# Altium footprint library EASY-EAI-Nano-TB V1.01.PcbLib: 64 footprints (part 2 of 4)
Each footprint in its own frame and in the unit in brackets; x right, y up, seen from the top. Pads: shape width x height; smd on the part's side, far side on the other; paste and mask are expansions set on the pad; w line width, h text height; cw(c..) or ccw(c..) is an arc to the next point about the centre after c.
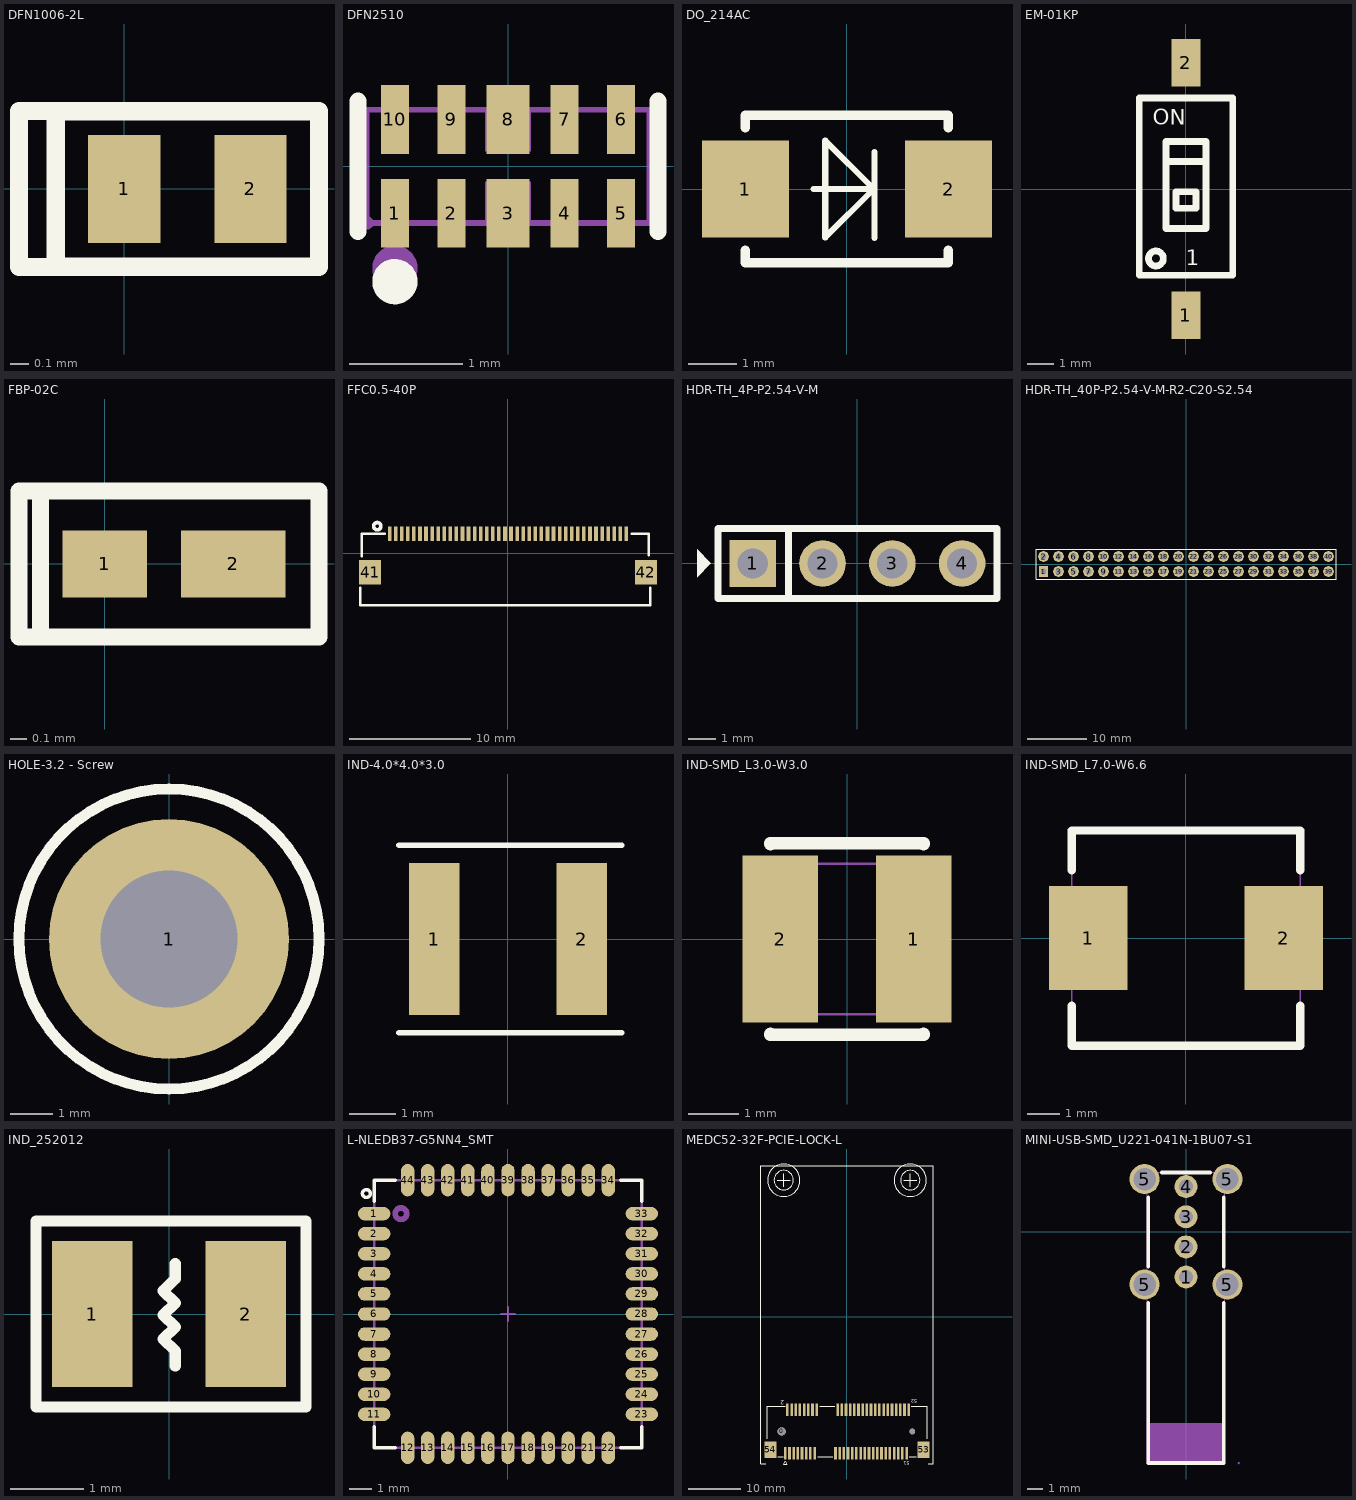
[diagram p1: the footprints below, top view; thin cyan lines are the x and y axes]

## DFN1006-2L [mm]
pads (2):
  rect 0.4x0.6 smd mask+0.051: 1(0,0) 2(0.7,0)
Top Overlay:
  lines w0.1: -0.381,-0.432 -0.584,-0.432 -0.584,0.432 -0.381,0.432
  lines w0.102: -0.381,-0.432 -0.381,0.432 1.081,0.432 1.081,-0.432 -0.381,-0.432

## DFN2510 [mm]
height 0.2
pads (10):
  rect 0.25x0.609 smd: 1(-1,-0.415) 2(-0.5,-0.415) 4(0.5,-0.415) 5(1,-0.415) 6(1,0.415) 7(0.5,0.415) 9(-0.5,0.415) 10(-1,0.415)
  rect 0.38x0.609 smd: 3(0,-0.415) 8(0,0.415)
Top Overlay:
  circle w0.2: c-1,-1.019 r0.1
  lines w0.152: -1.326,-0.576 -1.326,0.576 ; 1.326,-0.576 1.326,0.576
Mechanical 6:
  circle w0.2: c-1,-0.9 r0.1
Mechanical 15:
  region: 0.9,0.5 1.1,0.5 1.1,0.135 0.9,0.135
  region: 0.4,0.5 0.6,0.5 0.6,0.135 0.4,0.135
  region: -0.6,0.5 -0.4,0.5 -0.4,0.135 -0.6,0.135
  region: -1.1,0.5 -0.9,0.5 -0.9,0.135 -1.1,0.135
  region: 0.9,-0.135 1.1,-0.135 1.1,-0.5 0.9,-0.5
  region: 0.4,-0.135 0.6,-0.135 0.6,-0.5 0.4,-0.5
  region: -0.6,-0.135 -0.4,-0.135 -0.4,-0.5 -0.6,-0.5
  region: -1.1,-0.135 -0.9,-0.135 -0.9,-0.5 -1.1,-0.5
  region: 0.2,0.5 0.2,0.135 -0.2,0.135 -0.2,0.5
  region: -0.2,-0.5 -0.2,-0.135 0.2,-0.135 0.2,-0.5
  region: -1.19,-0.5 -1.191,-0.476 -1.226,-0.442 -1.274,-0.442 -1.309,-0.476 -1.31,-0.5 -1.309,-0.524 -1.274,-0.558 -1.226,-0.558 -1.191,-0.524
  lines w0.051: -1.25,-0.5 1.25,-0.5 1.25,0.5 -1.25,0.5 -1.25,-0.5

## DO_214AC [mm] "By LMD from 1.04.03.0018 Molded Diode, 2-Leads, Body 6.85x5.90mm, IPC Low Density"
height 2.62
pads (2):
  rect 1.8x2 smd: 1(-2.1,0) 2(2.1,0)
Top Overlay:
  lines w0.127: -0.688,0 0.552,0 ; 0.567,-1.016 0.567,0.762 ; 0.552,0 -0.449,1.001 -0.449,-1.001 0.552,0
  lines w0.2: -2.1,-1.27 -2.1,-1.524 2.091,-1.524 2.091,-1.27 ; -2.1,1.27 -2.1,1.524 2.091,1.524 2.091,1.27

## EM-01KP [mm]
height 10.5
pads (2):
  rect 1.1x1.8 smd: 1(0,-4.8) 2(0,4.8)
Top Overlay:
  circle w0.254: c-1.143,-2.641 r0.284
  lines w0.254: -0.762,1.042 0.762,1.042 ; -1.778,-3.276 1.778,-3.276 1.778,3.455 -1.778,3.455 -1.778,-3.276 ; -0.762,-1.498 0.762,-1.498 0.762,1.804 -0.762,1.804 -0.762,-1.498 ; -0.381,-0.736 0.381,-0.736 0.381,-0.101 -0.381,-0.101 -0.381,-0.736
  text "ON" at -1.27,2.439 h0.6
  text "1" at 0,-2.895 h0.6

## FBP-02C [mm]
pads (2):
  rect 0.5x0.4 smd mask+0.051: 1(0,0)
  rect 0.62x0.4 smd mask+0.051: 2(0.762,0)
Top Overlay:
  lines w0.102: -0.381,-0.432 -0.381,0.432 ; -0.508,-0.432 1.27,-0.432 1.27,0.432 -0.508,0.432 -0.508,-0.432

## FFC0.5-40P [mm]
height 0.2
pads (42):
  rect 0.3x1.2 smd: 1(-9.75,1.574) 2(-9.25,1.574) 3(-8.75,1.574) 4(-8.25,1.574) 5(-7.75,1.574) 6(-7.25,1.574) 7(-6.75,1.574) 8(-6.25,1.574) 9(-5.75,1.574) 10(-5.25,1.574) 11(-4.75,1.574) 12(-4.25,1.574) 13(-3.75,1.574) 14(-3.25,1.574) 15(-2.75,1.574) 16(-2.25,1.574) 17(-1.75,1.574) 18(-1.25,1.574) 19(-0.75,1.574) 20(-0.25,1.574) 21(0.25,1.574) 22(0.75,1.574) 23(1.25,1.574) 24(1.75,1.574) 25(2.25,1.574) 26(2.75,1.574) 27(3.25,1.574) 28(3.75,1.574) 29(4.25,1.574) 30(4.75,1.574) 31(5.25,1.574) 32(5.75,1.574) 33(6.25,1.574) 34(6.75,1.574) 35(7.25,1.574) 36(7.75,1.574) 37(8.25,1.574) 38(8.75,1.574) 39(9.25,1.574) 40(9.75,1.574)
  rect 1.8x2 smd: 41(-11.35,-1.574) 42(11.35,-1.574)
Top Overlay:
  circle w0.3: c-10.766,2.209 r0.3
  lines w0.203: -12.163,-2.871 -12.163,-4.316 11.713,-4.316 11.713,-2.871 ; -12.036,-0.252 -12.036,1.574 -10.131,1.574 ; 10.189,1.574 11.586,1.574 11.586,-0.204

## HDR-TH_4P-P2.54-V-M [mm]
pads (4):
  rect 1.7x1.7 hole 1.1: 1(-3.81,0)
  round 1.7 hole 1.1: 2(-1.27,0) 3(1.27,0) 4(3.81,0)
Top Overlay:
  region: -5.334,0 -5.842,0.508 -5.842,-0.508
  lines w0.254: -2.516,-1.27 -2.516,1.27 ; -2.516,1.27 5.08,1.27 5.08,-1.27 -5.08,-1.27 -5.08,1.27 -2.516,1.27
Mechanical 15:
  region: -4.13,0.32 -3.49,0.32 -3.49,-0.32 -4.13,-0.32
  region: -1.59,0.32 -0.95,0.32 -0.95,-0.32 -1.59,-0.32
  region: 0.95,0.32 1.59,0.32 1.59,-0.32 0.95,-0.32
  region: 3.49,0.32 4.13,0.32 4.13,-0.32 3.49,-0.32
  region: -5.02,-1.25 -5.02,-1.225 -5.055,-1.19 -5.105,-1.19 -5.14,-1.225 -5.14,-1.25 -5.14,-1.275 -5.105,-1.31 -5.055,-1.31 -5.02,-1.275
  lines w0.051: -5.08,-1.25 -5.08,1.25 5.08,1.25 5.08,-1.25 -5.08,-1.25

## HDR-TH_40P-P2.54-V-M-R2-C20-S2.54 [mm]
height 0.2
pads (40):
  rect 1.575x1.8 / inner rect 1.5x1.5 / far side rect 1.575x1.8 hole 1.1 paste+0 mask+0.051: 1(-24.13,-1.27)
  round 1.8 / inner round 1.5 / far side round 1.8 hole 1.1 paste+0 mask+0.051: 2(-24.13,1.27) 3(-21.59,-1.27) 4(-21.59,1.27) 5(-19.05,-1.27) 6(-19.05,1.27) 7(-16.51,-1.27) 8(-16.51,1.27) 9(-13.97,-1.27) 10(-13.97,1.27) 11(-11.43,-1.27) 12(-11.43,1.27) 13(-8.89,-1.27) 14(-8.89,1.27) 15(-6.35,-1.27) 16(-6.35,1.27) 17(-3.81,-1.27) 18(-3.81,1.27) 19(-1.27,-1.27) 20(-1.27,1.27) 21(1.27,-1.27) 22(1.27,1.27) 23(3.81,-1.27) 24(3.81,1.27) 25(6.35,-1.27) 26(6.35,1.27) 27(8.89,-1.27) 28(8.89,1.27) 29(11.43,-1.27) 30(11.43,1.27) 31(13.97,-1.27) 32(13.97,1.27) 33(16.51,-1.27) 34(16.51,1.27) 35(19.05,-1.27) 36(19.05,1.27) 37(21.59,-1.27) 38(21.59,1.27) 39(24.13,-1.27) 40(24.13,1.27)
Top Overlay:
  lines w0.203: -25.4,-2.54 25.4,-2.54 25.4,2.54 -25.4,2.54 -25.4,-2.54

## HOLE-3.2 - Screw [mm]
pads (1):
  round 5.6 hole 3.2: 1(0,0)
Top Overlay:
  circle w0.254: c0,0 r3.5

## IND-4.0*4.0*3.0 [mm]
height 0.2
pads (2):
  rect 1.1x3.3 smd: 1(-1.6,0) 2(1.6,0)
Top Overlay:
  lines w0.127: -2.362,-2.032 2.464,-2.032 ; -2.362,2.032 2.464,2.032

## IND-SMD_L3.0-W3.0 [mm]
height 0.2
pads (2):
  rect 1.5x3.32 smd paste+0 mask+0.051: 1(1.328,0) 2(-1.328,0)
Top Overlay:
  lines w0.254: -1.524,-1.891 -1.524,-1.905 1.524,-1.905 1.524,-1.891 ; -1.524,1.891 -1.524,1.905 1.524,1.905 1.524,1.891
Mechanical 15:
  region: -1.44,-1.5 -1.44,-1.475 -1.475,-1.44 -1.525,-1.44 -1.56,-1.475 -1.56,-1.5 -1.56,-1.525 -1.525,-1.56 -1.475,-1.56 -1.44,-1.525
  region: -1.5,-1.45 -1.5,1.45 -0.75,1.45 -0.75,-1.45
  region: 1.5,-1.45 1.5,1.45 0.75,1.45 0.75,-1.45
  lines w0.051: -1.5,-1.5 -1.5,1.5 1.5,1.5 1.5,-1.5 -1.5,-1.5

## IND-SMD_L7.0-W6.6 [mm] "JLC"
height 0.2
pads (2):
  rect 2.4x3.2 smd: 1(-3,0) 2(3,0)
Top Overlay:
  lines w0.254: -3.5,-2.081 -3.5,-3.3 -3.49,-3.3 3.5,-3.3 3.5,-2.081 ; -3.5,2.081 -3.5,3.3 3.48,3.3 3.5,3.28 ; 3.5,2.081 3.5,3.3
Mechanical 15:
  region: 1.9,1.5 3.5,1.5 3.5,-1.5 1.9,-1.5
  region: -1.9,-1.5 -3.5,-1.5 -3.5,1.5 -1.9,1.5
  region: -3.44,-3.3 -3.44,-3.275 -3.475,-3.24 -3.525,-3.24 -3.56,-3.275 -3.56,-3.3 -3.56,-3.325 -3.525,-3.36 -3.475,-3.36 -3.44,-3.325
  lines w0.051: -3.5,-3.3 -3.5,3.3 3.5,3.3 3.5,-3.3 -3.5,-3.3

## IND_252012 [mm]
pads (2):
  rect 1.1x2 smd: 1(-1.05,0) 2(1.05,0)
Top Overlay:
  lines w0.152: 0.086,-0.711 0.086,-0.508 -0.079,-0.343 0.086,-0.178 -0.079,-0.013 0.086,0.152 -0.079,0.318 0.086,0.483 0.086,0.686 ; -1.819,-1.27 1.871,-1.27 1.871,1.27 -1.819,1.27 -1.819,-1.27

## L-NLEDB37-G5NN4_SMT [mm]
height 0.35
pads (44):
  oval 1.45x0.6 smd mask+0.075: 1(-6,4.5) 2(-6,3.6) 3(-6,2.7) 4(-6,1.8) 5(-6,0.9) 6(-6,0) 7(-6,-0.9) 8(-6,-1.8) 9(-6,-2.7) 10(-6,-3.6) 11(-6,-4.5) 23(6,-4.5) 24(6,-3.6) 25(6,-2.7) 26(6,-1.8) 27(6,-0.9) 28(6,0) 29(6,0.9) 30(6,1.8) 31(6,2.7) 32(6,3.6) 33(6,4.5)
  oval 0.6x1.45 smd mask+0.075: 12(-4.5,-6) 13(-3.6,-6) 14(-2.7,-6) 15(-1.8,-6) 16(-0.9,-6) 17(0,-6) 18(0.9,-6) 19(1.8,-6) 20(2.7,-6) 21(3.6,-6) 22(4.5,-6) 34(4.5,6) 35(3.6,6) 36(2.7,6) 37(1.8,6) 38(0.9,6) 39(0,6) 40(-0.9,6) 41(-1.8,6) 42(-2.7,6) 43(-3.6,6) 44(-4.5,6)
Top Overlay:
  circle w0.152: c-6.35,5.4 r0.178
  lines w0.152: -6.005,-5.059 -6.005,-6.005 -5.059,-6.005 ; -6.005,5.059 -6.005,6.005 -5.059,6.005 ; 5.059,-6.005 6.005,-6.005 6.005,-5.059 ; 5.059,6.005 6.005,6.005 6.005,5.059
Top Solder:
  region: -1.25,-1.82 0.35,-1.82 0.35,0 -1.25,0
  region: -1.25,-2.86 -1.25,-3.89 1.25,-3.89 1.25,-3.55 0.56,-2.86
  region: 1.25,-2.765 1.66,-3.175 2.13,-3.175 2.13,-1.41 1.72,-1 1.25,-1
Mechanical 15:
  circle w0.254: c-4.8,4.5 r0.257
  lines w0.098: -0.3,0 0.3,0 ; 0,-0.3 0,0.3 ; -6,-6 6,-6 6,6 -6,6 -6,-6

## MEDC52-32F-PCIE-LOCK-L [mm]
pads (56):
  round 1.55 hole 1.6 unplated: 0(-12.5,-21.95)
  round 1.05 hole 1.1 unplated: 0(12.5,-21.95)
  rect 0.5x2.388 smd: 1(-11.8,-26.1) 2(-11.4,-17.8) 3(-11,-26.1) 4(-10.6,-17.8) 5(-10.2,-26.1) 6(-9.8,-17.8) 7(-9.4,-26.1) 8(-9,-17.8) 9(-8.6,-26.1) 10(-8.2,-17.8) 11(-7.8,-26.1) 12(-7.4,-17.8) 13(-7,-26.1) 14(-6.6,-17.8) 15(-6.2,-26.1) 16(-5.8,-17.8) 17(-2.2,-26.1) 18(-1.8,-17.8) 19(-1.4,-26.1) 20(-1,-17.8) 21(-0.6,-26.1) 22(-0.2,-17.8) 23(0.2,-26.1) 24(0.6,-17.8) 25(1,-26.1) 26(1.4,-17.8) 27(1.8,-26.1) 28(2.2,-17.8) 29(2.6,-26.1) 30(3,-17.8) 31(3.4,-26.1) 32(3.8,-17.8) 33(4.2,-26.1) 34(4.6,-17.8) 35(5,-26.1) 36(5.4,-17.8) 37(5.8,-26.1) 38(6.2,-17.8) 39(6.6,-26.1) 40(7,-17.8) 41(7.4,-26.1) 42(7.8,-17.8) 43(8.2,-26.1) 44(8.6,-17.8) 45(9,-26.1) 46(9.4,-17.8) 47(9.8,-26.1) 48(10.2,-17.8) 49(10.6,-26.1) 50(11,-17.8) 51(11.4,-26.1) 52(11.8,-17.8)
  rect 2.3x3.2 smd: 53(14.65,-25.45) 54(-14.65,-25.45)
Top Overlay:
  circle w0.203: c-12.1,26.1 r3.1
  circle w0.203: c12.1,26.1 r3.1
  circle w0.203: c12.1,26.1 r1.865
  circle w0.203: c-12.1,26.1 r1.865
  lines w0.15: -15.28,-23.347 -15.28,-17.124 -11.851,-17.124 ; -13.208,-26.776 -12.232,-26.776 ; -5.628,-26.776 -2.707,-26.776 ; -5.247,-17.124 -2.326,-17.124 ; 11.898,-26.776 13.208,-26.776 ; 12.279,-17.124 15.327,-17.124 15.327,-23.347 ; -12.078,-28.173 -11.824,-27.665 -11.57,-28.173 -12.078,-28.173
  lines w0.203: -15.5,-28.15 -16.5,-28.15 -16.5,28.84 16.5,28.84 16.5,-28.15 15.5,-28.15 ; -13.305,26.1 -12.1,26.1 ; -12.1,24.895 -12.1,26.1 ; -12.1,27.305 -12.1,26.1 ; -10.895,26.1 -12.1,26.1 ; 10.895,26.1 12.1,26.1 ; 12.1,24.895 12.1,26.1 ; 12.1,27.305 12.1,26.1 ; 13.305,26.1 12.1,26.1
  text "2" at -11.97,-15.979 h0.81
  text "52" at 13.475,-15.818 h0.71
  text "51" at 11.992,-27.655 h0.71

## MINI-USB-SMD_U221-041N-1BU07-S1 [mil]
pads (8):
  round 60 hole 36: 1(0,-118.11) 2(0,-39.37) 3(0,39.38) 4(0,118.11)
  round 78.74 hole 59.06: 5(-108.27,-137.8) 5(-108.27,137.79) 5(108.27,-137.8) 5(108.27,137.79)
Top Overlay:
  lines w10: -98.42,-185.25 -98.42,-604.33 98.42,-604.33 98.42,-185.25 ; -98.42,-90.33 -98.42,90.34 ; -62.96,155 62.96,155 ; 98.42,-90.33 98.42,90.34
Mechanical 6:
  region: -100,-605 -100,-500 100,-500 100,-605
Mechanical 15:
  region: -4.92,31.11 -4.92,47.64 4.92,47.64 4.92,31.11
  region: -4.92,-47.63 -4.92,-31.1 4.92,-31.1 4.92,-47.63
  region: -4.92,-126.37 -4.92,-109.84 4.92,-109.84 4.92,-126.37
  region: -4.92,109.85 -4.92,126.38 4.92,126.38 4.92,109.85
  region: 103.35,120.08 103.35,155.51 113.19,155.51 113.19,120.08
  region: -113.19,120.08 -113.19,155.51 -103.35,155.51 -103.35,120.08
  region: -113.19,-155.51 -113.19,-120.08 -103.35,-120.08 -103.35,-155.51
  region: 103.35,-155.51 103.35,-120.08 113.19,-120.08 113.19,-155.51
  region: 98.42,155.51 137.79,155.51 137.79,120.08 98.42,120.08
  region: 98.43,-120.08 137.8,-120.08 137.8,-155.51 98.43,-155.51
  region: -98.42,-155.51 -137.8,-155.51 -137.8,-120.08 -98.42,-120.08
  region: -98.43,120.08 -137.8,120.08 -137.8,155.51 -98.43,155.51
  region: 140.16,-604.33 140.16,-603.35 138.77,-601.97 136.81,-601.97 135.43,-603.35 135.43,-604.33 135.43,-605.31 136.82,-606.7 138.77,-606.69 140.16,-605.31
  lines w2: -100.79,-604.33 -100.79,155.51 100.79,155.51 100.79,-604.33 -100.79,-604.33